# EAGLE library part ATMEL_CORTEXM4 (library Andrew-Electrical)
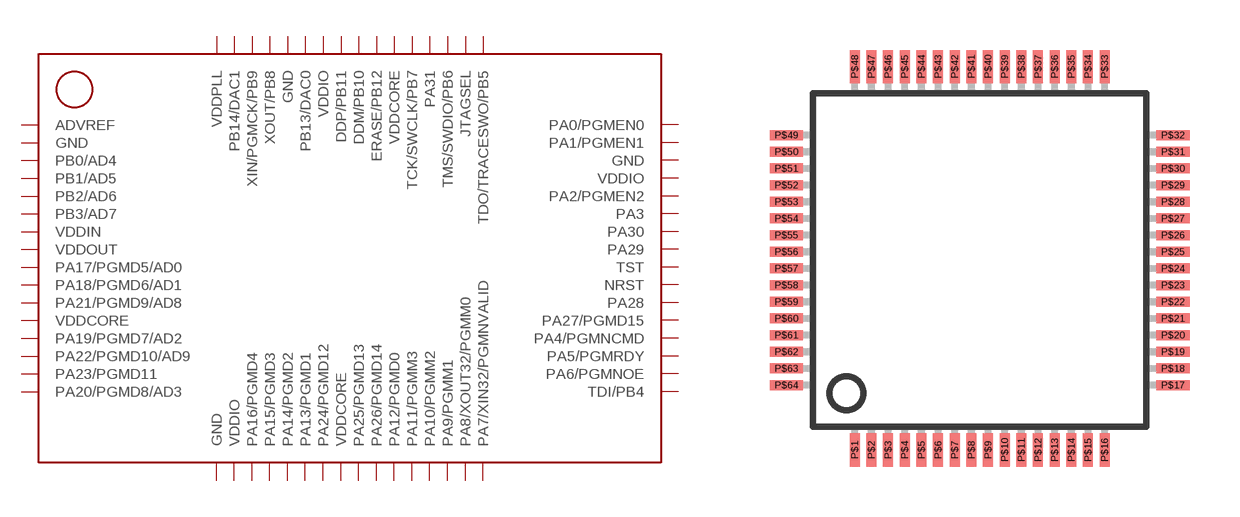
[diagram p6: symbol with the pads of LQFP-64; footprint LQFP-64]

Designator prefix -

## ATMEL_CORTEXM4-SAM4S  [LQFP-64]
P$1  ADVREF
P$2  GND
P$3  PB0/AD4
P$4  PB1/AD5
P$5  PB2/AD6
P$6  PB3/AD7
P$7  VDDIN
P$8  VDDOUT
P$9  PA17/PGMD5/AD0
P$10  PA18/PGMD6/AD1
P$11  PA21/PGMD9/AD8
P$12  VDDCORE
P$13  PA19/PGMD7/AD2
P$14  PA22/PGMD10/AD9
P$15  PA23/PGMD11
P$16  PA20/PGMD8/AD3
P$17  GND
P$18  VDDIO
P$19  PA16/PGMD4
P$20  PA15/PGMD3
P$21  PA14/PGMD2
P$22  PA13/PGMD1
P$23  PA24/PGMD12
P$24  VDDCORE
P$25  PA25/PGMD13
P$26  PA26/PGMD14
P$27  PA12/PGMD0
P$28  PA11/PGMM3
P$29  PA10/PGMM2
P$30  PA9/PGMM1
P$31  PA8/XOUT32/PGMM0
P$32  PA7/XIN32/PGMNVALID
P$33  TDI/PB4
P$34  PA6/PGMNOE
P$35  PA5/PGMRDY
P$36  PA4/PGMNCMD
P$37  PA27/PGMD15
P$38  PA28
P$39  NRST
P$40  TST
P$41  PA29
P$42  PA30
P$43  PA3
P$44  PA2/PGMEN2
P$45  VDDIO
P$46  GND
P$47  PA1/PGMEN1
P$48  PA0/PGMEN0
P$49  TDO/TRACESWO/PB5
P$50  JTAGSEL
P$51  TMS/SWDIO/PB6
P$52  PA31
P$53  TCK/SWCLK/PB7
P$54  VDDCORE
P$55  ERASE/PB12
P$56  DDM/PB10
P$57  DDP/PB11
P$58  VDDIO
P$59  PB13/DAC0
P$60  GND
P$61  XOUT/PB8
P$62  XIN/PGMCK/PB9
P$63  PB14/DAC1
P$64  VDDPLL

## Footprint LQFP-64 (pad centres in mm)
smd 0.3 x 1: P$1 -3.75,-5.7; P$2 -3.25,-5.7; P$3 -2.75,-5.7; P$4 -2.25,-5.7; P$5 -1.75,-5.7; P$6 -1.25,-5.7; P$7 -0.75,-5.7; P$8 -0.25,-5.7; P$9 0.25,-5.7; P$10 0.75,-5.7; P$11 1.25,-5.7; P$12 1.75,-5.7; P$13 2.25,-5.7; P$14 2.75,-5.7; P$15 3.25,-5.7; P$16 3.75,-5.7; P$33 3.75,5.8; P$34 3.25,5.8; P$35 2.75,5.8; P$36 2.25,5.8; P$37 1.75,5.8; P$38 1.25,5.8; P$39 0.75,5.8; P$40 0.25,5.8; P$41 -0.25,5.8; P$42 -0.75,5.8; P$43 -1.25,5.8; P$44 -1.75,5.8; P$45 -2.25,5.8; P$46 -2.75,5.8; P$47 -3.25,5.8; P$48 -3.75,5.8
smd 1 x 0.3: P$17 5.8,-3.75; P$18 5.8,-3.25; P$19 5.8,-2.75; P$20 5.8,-2.25; P$21 5.8,-1.75; P$22 5.8,-1.25; P$23 5.8,-0.75; P$24 5.8,-0.25; P$25 5.8,0.25; P$26 5.8,0.75; P$27 5.8,1.25; P$28 5.8,1.75; P$29 5.8,2.25; P$30 5.8,2.75; P$31 5.8,3.25; P$32 5.8,3.75; P$49 -5.8,3.75; P$50 -5.8,3.25; P$51 -5.8,2.75; P$52 -5.8,2.25; P$53 -5.8,1.75; P$54 -5.8,1.25; P$55 -5.8,0.75; P$56 -5.8,0.25; P$57 -5.8,-0.25; P$58 -5.8,-0.75; P$59 -5.8,-1.25; P$60 -5.8,-1.75; P$61 -5.8,-2.25; P$62 -5.8,-2.75; P$63 -5.8,-3.25; P$64 -5.8,-3.75